# EAGLE library part M24C04 (library pighiXXX)
ST MICROELECTRONICS M24C04-WMN6P Memory; EEPROM; I2C; 512x8bit; 2.5÷5.5V; SO8
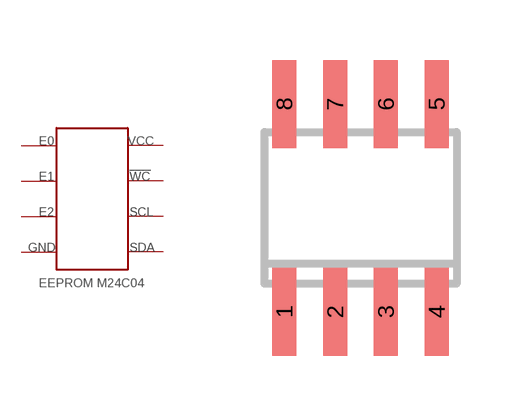
[diagram p1: symbol with the pads of SO08; footprint SO08]

Designator prefix M

## M24C04  [SO08]
1  E0
2  E1
3  E2
4  GND
5  SDA
6  SCL
7  !WC
8  VCC

## Footprint SO08 (pad centres in mm)
smd 0.6 x 2.2: 1 -1.905,-2.6; 2 -0.635,-2.6; 3 0.635,-2.6; 4 1.905,-2.6; 5 1.905,2.6; 6 0.635,2.6; 7 -0.635,2.6; 8 -1.905,2.6